# Altium footprint library do.PcbLib: 3 footprints
Each footprint in its own frame and in the unit in brackets; x right, y up, seen from the top. Pads: shape width x height; smd on the part's side, far side on the other; paste and mask are expansions set on the pad; w line width, h text height; cw(c..) or ccw(c..) is an arc to the next point about the centre after c.
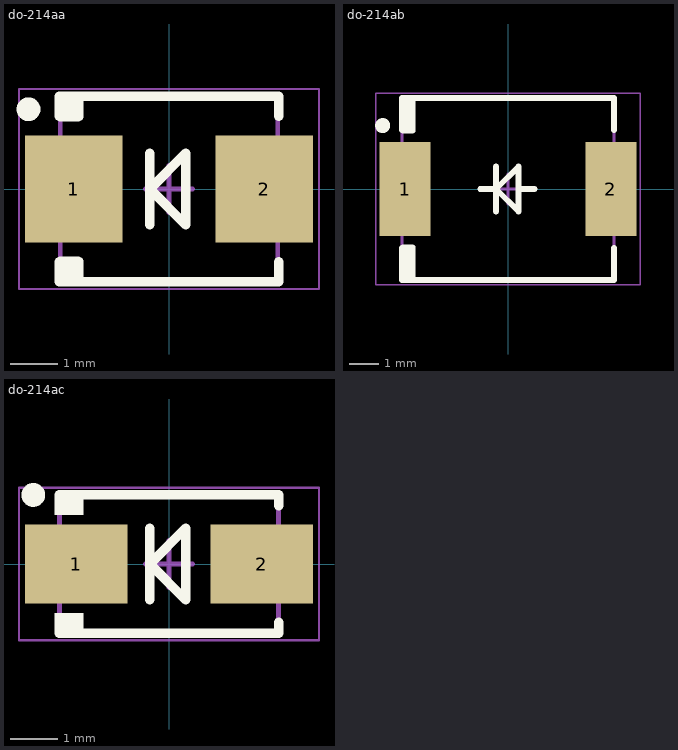
[diagram p0: the footprints below, top view; thin cyan lines are the x and y axes]

## do-214aa [mm] "DO-214AA, SMB"
height 2.5
pads (2):
  rect 2.05x2.25 smd: 1(-2,0) 2(2,0)
Top Overlay:
  circle w0.25: c-2.95,1.675 r0.125
  region: -2.3,-1.95 -2.3,-1.425 -1.9,-1.425 -1.88,-1.425 -1.843,-1.44 -1.815,-1.468 -1.8,-1.505 -1.8,-1.525 -1.8,-1.95
  region: -2.3,1.95 -2.3,1.425 -1.9,1.425 -1.88,1.425 -1.843,1.44 -1.815,1.468 -1.8,1.505 -1.8,1.525 -1.8,1.95
  lines w0.2: -2.3,-1.525 -2.3,-1.95 2.3,-1.95 2.3,-1.525 ; -2.3,1.525 -2.3,1.95 2.3,1.95 2.3,1.525 ; -0.4,-0.75 -0.4,0 ; -0.4,0.75 -0.4,0 ; -0.4,0 0.35,0.75 0.35,-0.75 -0.4,0
Mechanical 13:
  lines w0.1: -2.285,-1.97 -2.285,1.97 2.285,1.97 2.285,-1.97 -2.285,-1.97
Mechanical 15:
  lines w0.05: -3.15,-2.1 -3.15,2.1 3.15,2.1 3.15,-2.1 -3.15,-2.1
  lines w0.1: -0.5,0 0.5,0 ; 0,-0.5 0,0.5
3D body: height 2.5, standoff 0, extent -2.285,-1.97 2.285,1.97

## do-214ab [mm] "DO-214AB, SMC"
height 2.41
pads (2):
  rect 1.7x3.15 smd: 1(-3.45,0) 2(3.45,0)
Top Overlay:
  circle w0.25: c-4.2,2.125 r0.125
  region: -3.55,1.975
  region: -3.55,1.875 -3.2,1.875 -3.18,1.875 -3.143,1.89 -3.115,1.918 -3.1,1.955 -3.1,1.975 -3.1,3.05 -3.55,3.05
  region: -3.55,-1.875 -3.2,-1.875 -3.18,-1.875 -3.143,-1.89 -3.115,-1.918 -3.1,-1.955 -3.1,-1.975 -3.1,-3.05 -3.55,-3.05
  lines w0.2: -3.55,-1.975 -3.55,-3.05 3.55,-3.05 3.55,-1.975 ; -3.55,1.975 -3.55,3.05 3.55,3.05 3.55,1.975 ; -0.93,0 -0.4,0 ; -0.4,-0.75 -0.4,0 ; -0.4,0.75 -0.4,0 ; 0.35,0 0.88,0 ; -0.4,0 0.35,0.75 0.35,-0.75 -0.4,0
Mechanical 13:
  lines w0.1: -3.555,-3.05 -3.555,3.05 3.555,3.05 3.555,-3.05 -3.555,-3.05
Mechanical 15:
  lines w0.05: -4.425,-3.2 -4.425,3.2 4.425,3.2 4.425,-3.2 -4.425,-3.2
  lines w0.1: -0.5,0 0.5,0 ; 0,-0.5 0,0.5
3D body: height 2.41, standoff 0, extent -3.555,-3.05 3.555,3.05

## do-214ac [mm] "DO-214AC, SMA"
height 2.3
pads (2):
  rect 2.15x1.65 smd: 1(-1.95,0) 2(1.95,0)
Top Overlay:
  circle w0.25: c-2.85,1.45 r0.125
  rectangle: -2.4,-1.45 -1.8,-1.03
  rectangle: -2.4,1.03 -1.8,1.45
  lines w0.2: -2.3,-1.13 -2.3,-1.45 2.3,-1.45 2.3,-1.225 ; -2.3,1.13 -2.3,1.45 2.3,1.45 2.3,1.225 ; -0.4,-0.75 -0.4,0 ; -0.4,0.75 -0.4,0 ; -0.4,0 0.35,0.75 0.35,-0.75 -0.4,0
Mechanical 13:
  lines w0.1: -2.3,-1.46 2.3,-1.46 2.3,1.46 -2.3,1.46 -2.3,-1.46
Mechanical 15:
  lines w0.05: -3.15,-1.6 3.15,-1.6 3.15,1.6 -3.15,1.6 -3.15,-1.6
  lines w0.1: -0.5,0 0.5,0 ; 0,-0.5 0,0.5
3D body: height 2.3, standoff 0, extent -2.3,-1.46 2.3,1.46